# Altium footprint library 5123.28-1.01.PcbLib: 1 footprints
Each footprint in its own frame and in the unit in brackets; x right, y up, seen from the top. Pads: shape width x height; smd on the part's side, far side on the other; paste and mask are expansions set on the pad; w line width, h text height; cw(c..) or ccw(c..) is an arc to the next point about the centre after c.
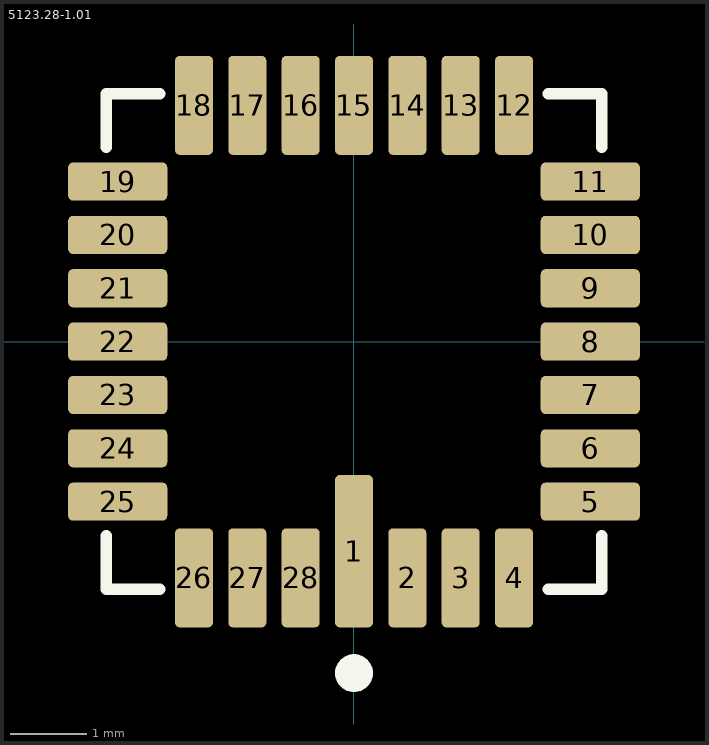
[diagram p0: the footprint, top view; thin cyan lines are the x and y axes]

## 5123.28-1.01 [mm] "5123.28-1.01 chip footprint"
height 2
pads (29):
  rrect25% 0.5x2 smd mask+0.1: 1(0,-2.75)
  rrect25% 0.5x1.3 smd mask+0.1: 2(0.7,-3.1) 3(1.4,-3.1) 4(2.1,-3.1) 12(2.1,3.1) 13(1.4,3.1) 14(0.7,3.1) 15(0,3.1) 16(-0.7,3.1) 17(-1.4,3.1) 18(-2.1,3.1) 26(-2.1,-3.1) 27(-1.4,-3.1) 28(-0.7,-3.1)
  rrect25% 1.3x0.5 smd mask+0.1: 5(3.1,-2.1) 6(3.1,-1.4) 7(3.1,-0.7) 8(3.1,0) 9(3.1,0.7) 10(3.1,1.4) 11(3.1,2.1) 19(-3.1,2.1) 20(-3.1,1.4) 21(-3.1,0.7) 22(-3.1,0) 23(-3.1,-0.7) 24(-3.1,-1.4) 25(-3.1,-2.1)
  round 0.5 on Top Overlay mask+0.1: ""(0,-4.35)
Top Overlay:
  lines w0.15: -3.25,-2.55 -3.25,-3.25 -2.55,-3.25 ; -3.25,2.55 -3.25,3.25 ; -2.55,3.25 -3.25,3.25 ; 2.55,-3.25 3.25,-3.25 3.25,-2.55 ; 2.55,3.25 3.25,3.25 ; 3.25,2.55 3.25,3.25 ; -3.25,3.25 -3.25,3.25 ; 3.25,3.25 3.25,3.25
3D body "korpus_5123_28-1-01.stp": height 1.85, standoff 0, extent -3.25,-3.25 3.25,3.25